# EAGLE library part SWITCH_DPDT (library mylib)
Switch - DPDT A DPDT Switch acts like an SPDT switch, but has a pair of switches instead of just one. Vertical - 0.3A @ 6V SMT - Digikey: JS202011SCQN
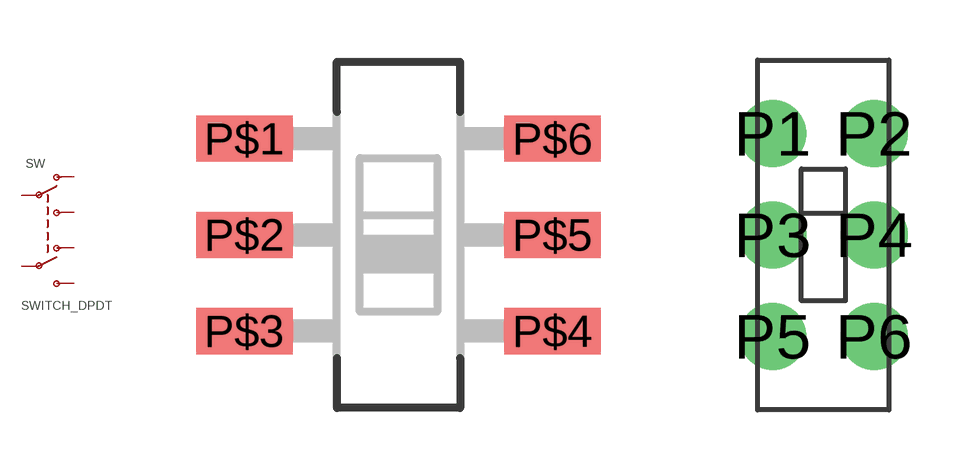
[diagram p9: symbol with the pads of DPDT_SMT_JS202011SCQN; footprints DPDT_SMT_JS202011SCQN, MINI_DPDT]

Designator prefix SW

## SWITCH_DPDT  [DPDT_SMT_JS202011SCQN]
P$1  O1  pas
P$2  P1  pas
P$3  S1  pas
P$4  S2  pas
P$5  P2  pas
P$6  O2  pas

## SWITCH_DPDTDIP  [MINI_DPDT]
P1  O1  pas
P2  O2  pas
P3  P1  pas
P4  P2  pas
P5  S1  pas
P6  S2  pas

## Footprint DPDT_SMT_JS202011SCQN (pad centres in mm)
smd 2.5 x 1.2: P$1 -4,2.5; P$2 -4,0; P$3 -4,-2.5; P$4 4,-2.5; P$5 4,0; P$6 4,2.5

## Footprint MINI_DPDT (pad centres in mm)
drill 0.9 pad 1.676: P1 -1.27,2.54; P2 1.27,2.54; P3 -1.27,0; P4 1.27,0; P5 -1.27,-2.54; P6 1.27,-2.54